# Altium schematic symbol library 744229.Schlib: 1 symbol
Pins are listed as number, name and electrical type; pins without a type are passive.

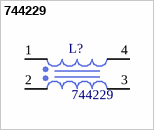
[diagram p0: symbol 744229]

## 744229
designator L?
WE-SL2 SMD Common Mode Line Filter, 6500 uH
pins: 1, 2, 3, 4